# EAGLE library part T_NPN_ARRAY (library Dal_V2)
Transistor Array Fairchild MMPQ3904 -- 4x NPN Transistors
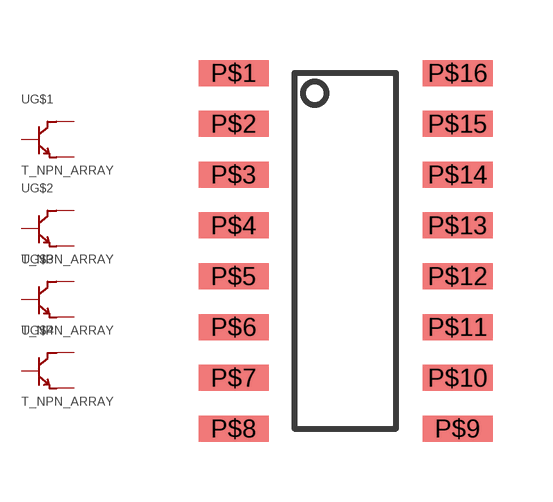
[diagram p22: symbol with the pads of SO16LNB; footprint SO16LNB]

Designator prefix U; gates G$1=T_NPN G$2=T_NPN G$3=T_NPN G$4=T_NPN

## T_NPN_ARRAY  [SO16LNB]
P$1  G$1:COLLECTOR  pas
P$2  G$1:COLLECTOR  pas
P$3  G$2:COLLECTOR  pas
P$4  G$2:COLLECTOR  pas
P$5  G$3:COLLECTOR  pas
P$6  G$3:COLLECTOR  pas
P$7  G$4:COLLECTOR  pas
P$8  G$4:COLLECTOR  pas
P$9  G$4:BASE  pas
P$10  G$4:EMITTER  pas
P$11  G$3:BASE  pas
P$12  G$3:EMITTER  pas
P$13  G$2:BASE  pas
P$14  G$2:EMITTER  pas
P$15  G$1:BASE  pas
P$16  G$1:EMITTER  pas

## Footprint SO16LNB (pad centres in mm)
16-Lead SOIC Narrow Body Taken from Fairchild Datasheet for transistor array (MMPQ3904)
smd 1.75 x 0.65: P$1 0,0; P$2 0,-1.27; P$3 0,-2.54; P$4 0,-3.81; P$5 0,-5.08; P$6 0,-6.35; P$7 0,-7.62; P$8 0,-8.89; P$9 5.6,-8.89; P$10 5.6,-7.62; P$11 5.6,-6.35; P$12 5.6,-5.08; P$13 5.6,-3.81; P$14 5.6,-2.54; P$15 5.6,-1.27; P$16 5.6,0